# EAGLE library part LM555CM (library LM555CM)
http://octopart.com/lm555cm-fairchild+semiconductor-516690
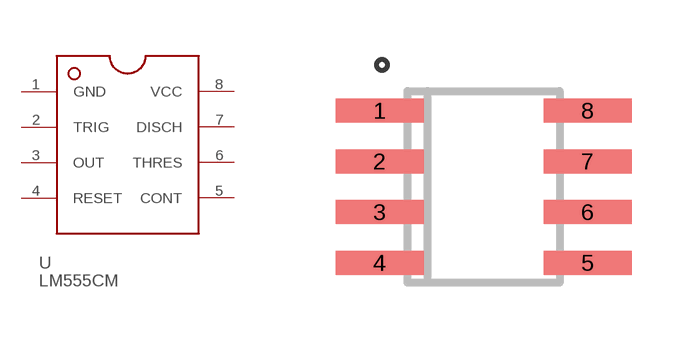
[diagram p0: symbol with the pads of SO08; footprint SO08]

Designator prefix U

## LM555CM (AVAILABILITY: Unavailable; DESCRIPTION: 555 Type, Timer/Oscillator _Single_ IC 100kHz 8-SOIC; MF: Texas Instruments; MP: LM555CM/NOPB; PACKAGE: SOIC-8 Texas Instruments; PRICE: None)  [SO08]
1  GND  pas
2  TRIG  in
3  OUT  out
4  RESET  in
5  CONT
6  THRES  in
7  DISCH  out
8  VCC  pwr

## Footprint SO08 (pad centres in mm)
smd 2.2 x 0.6: 1 -2.6,1.905; 2 -2.6,0.635; 3 -2.6,-0.635; 4 -2.6,-1.905; 5 2.6,-1.905; 6 2.6,-0.635; 7 2.6,0.635; 8 2.6,1.905